# EAGLE library part USB-B-SMD (library 1_USER)
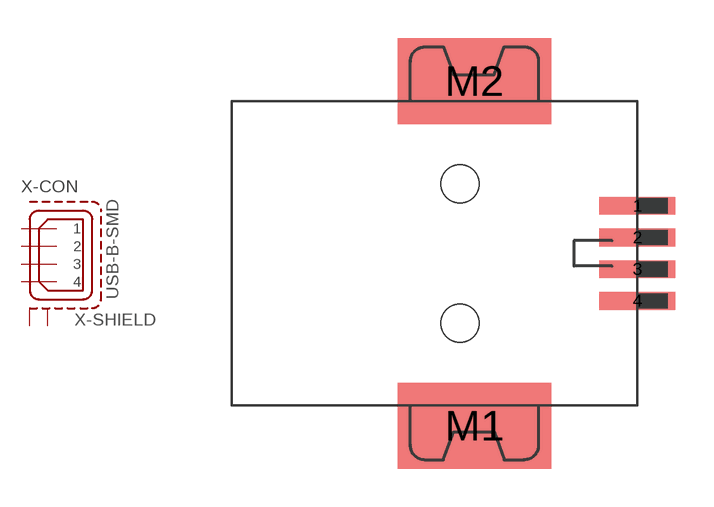
[diagram p15: symbol with the pads of USB-B-SMD; footprint USB-B-SMD]

Designator prefix X; gates -CON=USB-B -SHIELD=USB-B-SHIELD

## USB-B-SMD  [USB-B-SMD]
1  -CON:1  in
2  -CON:2  in
3  -CON:3  in
4  -CON:4  in
M1  -SHIELD:S1  pas
M2  -SHIELD:S2  pas

## Footprint USB-B-SMD (pad centres in mm)
smd 3 x 0.7: 1 7,1.875; 2 7,0.625; 3 7,-0.625; 4 7,-1.875
smd 6.04 x 3.4: M1 0.58,-6.8; M2 0.58,6.8
hole 1.5 at 0,-2.75
hole 1.5 at 0,2.75